# Altium footprint library htssop_38_p50_970x440x120_l63x22_t470x290.PcbLib: 1 footprints
Each footprint in its own frame and in the unit in brackets; x right, y up, seen from the top. Pads: shape width x height; smd on the part's side, far side on the other; paste and mask are expansions set on the pad; w line width, h text height; cw(c..) or ccw(c..) is an arc to the next point about the centre after c.
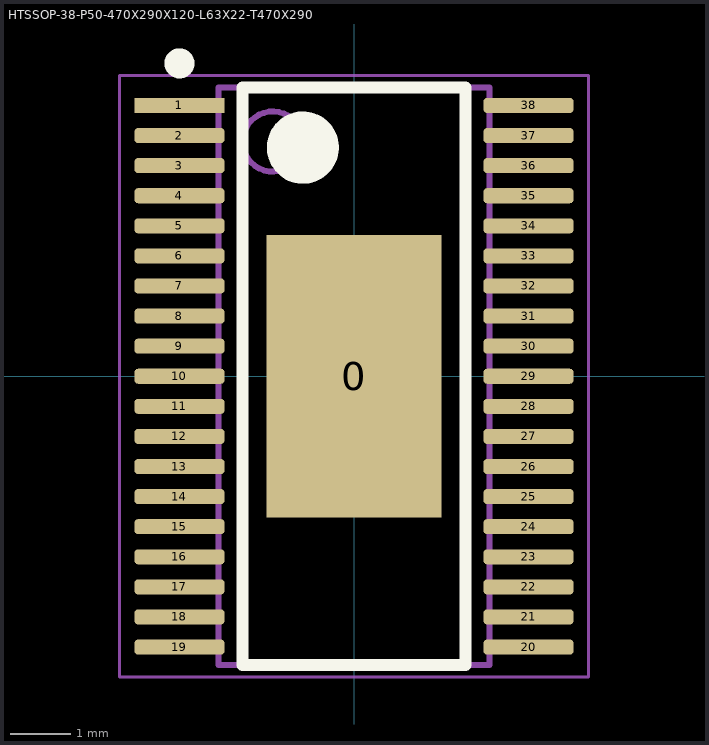
[diagram p0: the footprint, top view; thin cyan lines are the x and y axes]

## HTSSOP-38-P50-470X290X120-L63X22-T470X290 [mm] "HTSSOP, 38-Leads, Body 9,50x4,40mm, Pitch 0,50mm, Thermal Pad 4,70x2,90mm, IPC Medium Density"
height 1.2
pads (39):
  rect 2.9x4.7 smd: 0(0,0)
  rect 1.5x0.25 smd: 1(-2.9,4.5)
  rrect50% 1.5x0.25 smd: 2(-2.9,4) 3(-2.9,3.5) 4(-2.9,3) 5(-2.9,2.5) 6(-2.9,2) 7(-2.9,1.5) 8(-2.9,1) 9(-2.9,0.5) 10(-2.9,0) 11(-2.9,-0.5) 12(-2.9,-1) 13(-2.9,-1.5) 14(-2.9,-2) 15(-2.9,-2.5) 16(-2.9,-3) 17(-2.9,-3.5) 18(-2.9,-4) 19(-2.9,-4.5) 20(2.9,-4.5) 21(2.9,-4) 22(2.9,-3.5) 23(2.9,-3) 24(2.9,-2.5) 25(2.9,-2) 26(2.9,-1.5) 27(2.9,-1) 28(2.9,-0.5) 29(2.9,0) 30(2.9,0.5) 31(2.9,1) 32(2.9,1.5) 33(2.9,2) 34(2.9,2.5) 35(2.9,3) 36(2.9,3.5) 37(2.9,4) 38(2.9,4.5)
Top Overlay:
  circle w0.6: c-0.85,3.8 r0.3
  circle w0.25: c-2.9,5.2 r0.125
  lines w0.2: -1.85,-4.8 1.85,-4.8 1.85,4.8 -1.85,4.8 -1.85,-4.8
Top Comment:
  text ".Comment" at 0.8,5.2 h1.2
Top Designator:
  text ".Designator" at -0.5,5.2 h1.2
Top Component Outline:
  circle w0.1: c-1.35,3.9 r0.5
  lines w0.1: -2.25,-4.8 -2.25,4.8 2.25,4.8 2.25,-4.8 -2.25,-4.8
Top Courtyard (Mech15):
  lines w0.05: -3.9,-5 3.9,-5 3.9,5 -3.9,5 -3.9,-5
  lines w0.1: -0.5,0 0.5,0 ; 0,-0.5 0,0.5
3D body "HTSSOP-38.STEP": height 1.09, standoff 0, extent -3.2,-4.85 3.2,4.85